# Altium schematic symbol library GENERIC_NPN_ECB.Schlib: 1 symbol
Pins are listed as number, name and electrical type; pins without a type are passive.

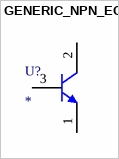
[diagram p0: symbol GENERIC_NPN_ECB]

## GENERIC_NPN_ECB
designator U?
pins: 1 E, 2 C, 3 B